# Altium schematic symbol library W5100.SchLib: 1 symbol
Pins are listed as number, name and electrical type; pins without a type are passive.

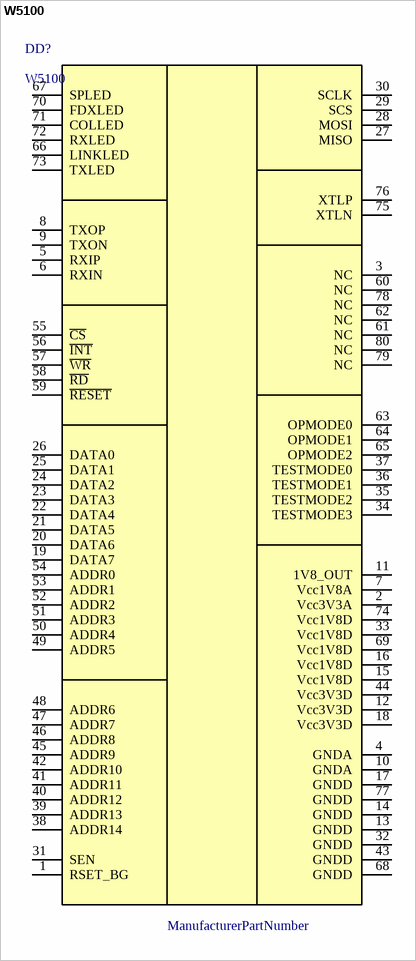
[diagram p0: symbol W5100]

## W5100
designator DD?
TCP/IP GATE; Supplier 1: Mouser; Supplier Part Number 1: 950-W5100; ManufacturerPartNumber: ManufacturerPartNumber
pins: 1 RSET_BG, 2 Vcc3V3A, 3 NC, 4 GNDA, 5 RXIP, 6 RXIN, 7 Vcc1V8A, 8 TXOP, 9 TXON, 10 GNDA, 11 1V8_OUT, 12 Vcc3V3D, 13 GNDD, 14 GNDD, 15 Vcc1V8D, 16 Vcc1V8D, 17 GNDD, 18 Vcc3V3D, 19 DATA7, 20 DATA6, 21 DATA5, 22 DATA4, 23 DATA3, 24 DATA2, 25 DATA1, 26 DATA0, 27 MISO, 28 MOSI, 29 SCS, 30 SCLK, 31 SEN, 32 GNDD, 33 Vcc1V8D, 34 TESTMODE3, 35 TESTMODE2, 36 TESTMODE1, 37 TESTMODE0, 38 ADDR14, 39 ADDR13, 40 ADDR12, 41 ADDR11, 42 ADDR10, 43 GNDD, 44 Vcc3V3D, 45 ADDR9, 46 ADDR8, 47 ADDR7, 48 ADDR6, 49 ADDR5, 50 ADDR4, 51 ADDR3, 52 ADDR2, 53 ADDR1, 54 ADDR0, 55 ~{CS}, 56 ~{INT}, 57 ~{WR}, 58 ~{RD}, 59 ~{RESET}, 60 NC, 61 NC, 62 NC, 63 OPMODE0, 64 OPMODE1, 65 OPMODE2, 66 LINKLED, 67 SPLED, 68 GNDD, 69 Vcc1V8D, 70 FDXLED, 71 COLLED, 72 RXLED, 73 TXLED, 74 Vcc1V8D, 75 XTLN, 76 XTLP, 77 GNDD, 78 NC, 79 NC, 80 NC